# EAGLE library part ARDUINOPROMICRO (library ProMicro)
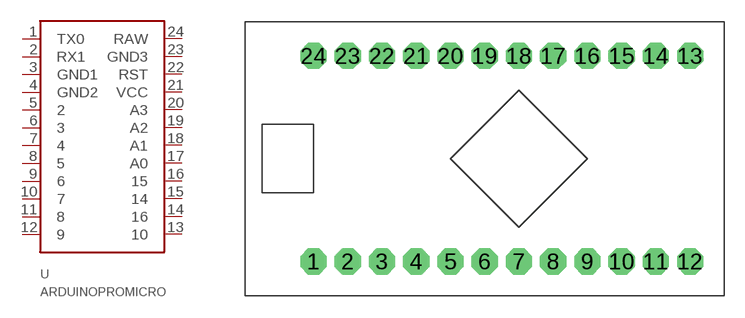
[diagram p0: symbol with the pads of PROMICRO; footprint PROMICRO]

Designator prefix -

## ARDUINOPROMICRO1  [PROMICRO]
1  TX0
2  RX1
3  GND1
4  GND2
5  2
6  3
7  4
8  5
9  6
10  7
11  8
12  9
13  10
14  16
15  14
16  15
17  A0
18  A1
19  A2
20  A3
21  VCC  pwr
22  RST
23  GND3
24  RAW

## Footprint PROMICRO (pad centres in mm)
drill 1 pad 1.93 octagon: 1 0,0; 2 2.54,0; 3 5.08,0; 4 7.62,0; 5 10.16,0; 6 12.7,0; 7 15.24,0; 8 17.78,0; 9 20.32,0; 10 22.86,0; 11 25.4,0; 12 27.94,0; 13 27.94,15.24; 14 25.4,15.24; 15 22.86,15.24; 16 20.32,15.24; 17 17.78,15.24; 18 15.24,15.24; 19 12.7,15.24; 20 10.16,15.24; 21 7.62,15.24; 22 5.08,15.24; 23 2.54,15.24; 24 0,15.24